# EAGLE library part NAND_FLASH_NEW (library vlsi)
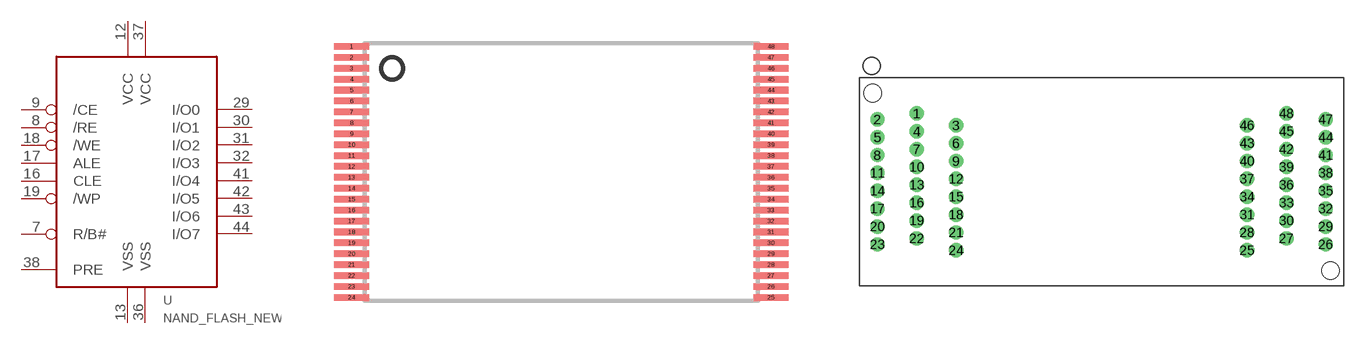
[diagram p5: symbol with the pads of TSOP48L; footprints TSOP48L, SOCKET_TSOP48_WELLS_648-0482211]

Designator prefix U

## NAND_FLASH_NEWT  [TSOP48L]
7  R/B#  out
8  /RE  in
9  /CE  in
12  VCC  pwr
13  VSS  sup
16  CLE  in
17  ALE  in
18  /WE  in
19  /WP  in
29  I/O0
30  I/O1
31  I/O2
32  I/O3
36  VSS  sup
37  VCC  pwr
38  PRE  sup
41  I/O4
42  I/O5
43  I/O6
44  I/O7

## NAND_FLASH_NEW_SOCKET  [SOCKET_TSOP48_WELLS_648-0482211]
Pads as for TSOP48L

## Footprint TSOP48L (pad centres in mm)
Thin Small Outline Package
smd 1.6 x 0.3: 1 -9.6,5.75; 2 -9.6,5.25; 3 -9.6,4.75; 4 -9.6,4.25; 5 -9.6,3.75; 6 -9.6,3.25; 7 -9.6,2.75; 8 -9.6,2.25; 9 -9.6,1.75; 10 -9.6,1.25; 11 -9.6,0.75; 12 -9.6,0.25; 13 -9.6,-0.25; 14 -9.6,-0.75; 15 -9.6,-1.25; 16 -9.6,-1.75; 17 -9.6,-2.25; 18 -9.6,-2.75; 19 -9.6,-3.25; 20 -9.6,-3.75; 21 -9.6,-4.25; 22 -9.6,-4.75; 23 -9.6,-5.25; 24 -9.6,-5.75; 25 9.6,-5.75; 26 9.6,-5.25; 27 9.6,-4.75; 28 9.6,-4.25; 29 9.6,-3.75; 30 9.6,-3.25; 31 9.6,-2.75; 32 9.6,-2.25; 33 9.6,-1.75; 34 9.6,-1.25; 35 9.6,-0.75; 36 9.6,-0.25; 37 9.6,0.25; 38 9.6,0.75; 39 9.6,1.25; 40 9.6,1.75; 41 9.6,2.25; 42 9.6,2.75; 43 9.6,3.25; 44 9.6,3.75; 45 9.6,4.25; 46 9.6,4.75; 47 9.6,5.25; 48 9.6,5.75

## Footprint SOCKET_TSOP48_WELLS_648-0482211 (pad centres in mm)
drill 0.7 round: 1 -14.7,6; 2 -18,5.5; 3 -11.4,5; 4 -14.7,4.5; 5 -18,4; 6 -11.4,3.5; 7 -14.7,3; 8 -18,2.5; 9 -11.4,2; 10 -14.7,1.5; 11 -18,1; 12 -11.4,0.5; 13 -14.7,0; 14 -18,-0.5; 15 -11.4,-1; 16 -14.7,-1.5; 17 -18,-2; 18 -11.4,-2.5; 19 -14.7,-3; 20 -18,-3.5; 21 -11.4,-4; 22 -14.7,-4.5; 23 -18,-5; 24 -11.4,-5.5; 25 13,-5.5; 26 19.6,-5; 27 16.3,-4.5; 28 13,-4; 29 19.6,-3.5; 30 16.3,-3; 31 13,-2.5; 32 19.6,-2; 33 16.3,-1.5; 34 13,-1; 35 19.6,-0.5; 36 16.3,0; 37 13,0.5; 38 19.6,1; 39 16.3,1.5; 40 13,2; 41 19.6,2.5; 42 16.3,3; 43 13,3.5; 44 19.6,4; 45 16.3,4.5; 46 13,5; 47 19.6,5.5; 48 16.3,6
hole 1.5 at -18.4,7.7
hole 1.5 at 20,-7.2